# Altium footprint library полётный контроллер.PcbLib: 3 footprints
Each footprint in its own frame and in the unit in brackets; x right, y up, seen from the top. Pads: shape width x height; smd on the part's side, far side on the other; paste and mask are expansions set on the pad; w line width, h text height; cw(c..) or ccw(c..) is an arc to the next point about the centre after c.
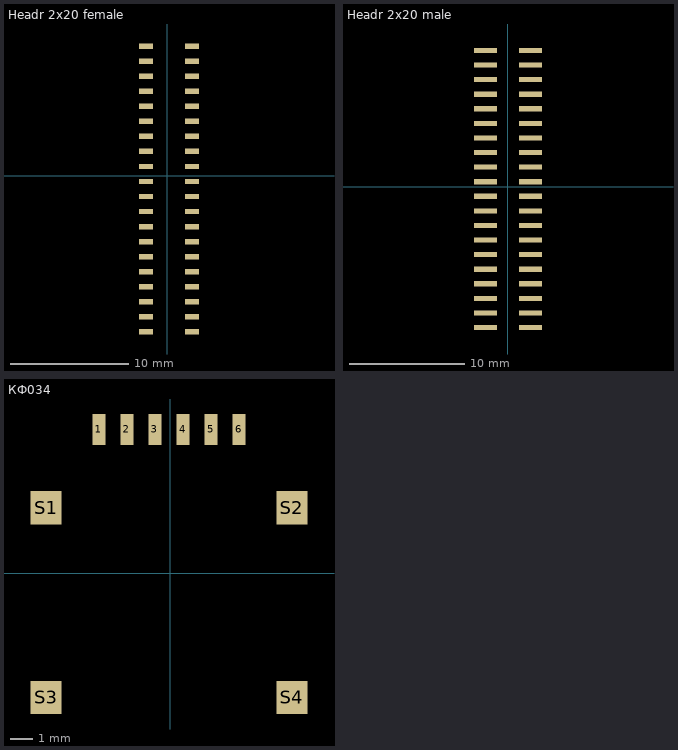
[diagram p0: the footprints below, top view; thin cyan lines are the x and y axes]

## Headr 2x20 female [mm]
pads (40):
  rect 1.2x0.45 smd: 1(-1.82,10.962) 2(2.08,10.962) 3(-1.82,9.692) 4(2.08,9.692) 5(-1.82,8.422) 6(2.08,8.422) 7(-1.82,7.152) 8(2.08,7.152) 9(-1.82,5.882) 10(2.08,5.882) 11(-1.82,4.612) 12(2.08,4.612) 13(-1.82,3.342) 14(2.08,3.342) 15(-1.82,2.072) 16(2.08,2.072) 17(-1.82,0.802) 18(2.08,0.802) 19(-1.82,-0.468) 20(2.08,-0.468) 21(-1.82,-1.738) 22(2.08,-1.738) 23(-1.82,-3.008) 24(2.08,-3.008) 25(-1.82,-4.278) 26(2.08,-4.278) 27(-1.82,-5.548) 28(2.08,-5.548) 29(-1.82,-6.818) 30(2.08,-6.818) 31(-1.82,-8.088) 32(2.08,-8.088) 33(-1.82,-9.358) 34(2.08,-9.358) 35(-1.82,-10.628) 36(2.08,-10.628) 37(-1.82,-11.898) 38(2.08,-11.898) 39(-1.82,-13.168) 40(2.08,-13.168)

## Headr 2x20 male [mm]
pads (40):
  rect 2x0.45 smd: 1(-1.947,11.851) 2(1.953,11.851) 3(-1.947,10.581) 4(1.953,10.581) 5(-1.947,9.311) 6(1.953,9.311) 7(-1.947,8.041) 8(1.953,8.041) 9(-1.947,6.771) 10(1.953,6.771) 11(-1.947,5.501) 12(1.953,5.501) 13(-1.947,4.231) 14(1.953,4.231) 15(-1.947,2.961) 16(1.953,2.961) 17(-1.947,1.691) 18(1.953,1.691) 19(-1.947,0.421) 20(1.953,0.421) 21(-1.947,-0.849) 22(1.953,-0.849) 23(-1.947,-2.119) 24(1.953,-2.119) 25(-1.947,-3.389) 26(1.953,-3.389) 27(-1.947,-4.659) 28(1.953,-4.659) 29(-1.947,-5.929) 30(1.953,-5.929) 31(-1.947,-7.199) 32(1.953,-7.199) 33(-1.947,-8.469) 34(1.953,-8.469) 35(-1.947,-9.739) 36(1.953,-9.739) 37(-1.947,-11.009) 38(1.953,-11.009) 39(-1.947,-12.279) 40(1.953,-12.279)

## КФ034 [mm]
pads (10):
  rect 0.6x1.4 smd: 1(-3.241,6.528) 2(-1.971,6.528) 3(-0.701,6.528) 4(0.569,6.528) 5(1.839,6.528) 6(3.109,6.528)
  rect 1.4x1.5 smd: S1(-5.641,2.978) S2(5.509,2.978) S3(-5.641,-5.622) S4(5.509,-5.622)